# Altium footprint library BMP390.PcbLib: 1 footprints
Each footprint in its own frame and in the unit in brackets; x right, y up, seen from the top. Pads: shape width x height; smd on the part's side, far side on the other; paste and mask are expansions set on the pad; w line width, h text height; cw(c..) or ccw(c..) is an arc to the next point about the centre after c.
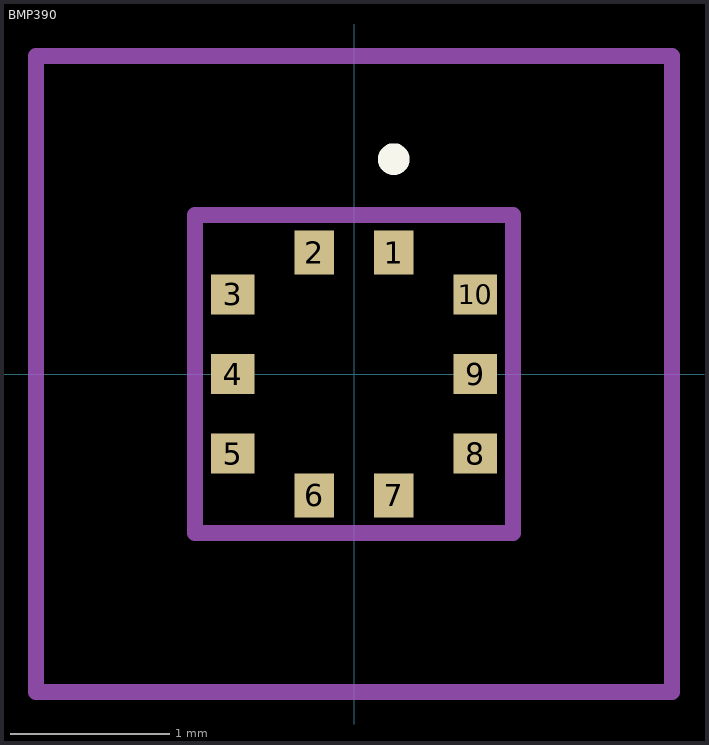
[diagram p0: the footprint, top view; thin cyan lines are the x and y axes]

## BMP390 [mm]
pads (10):
  rect 0.25x0.275 smd: 1(0.25,0.763) 2(-0.25,0.763) 6(-0.25,-0.763) 7(0.25,-0.763)
  rect 0.275x0.25 smd: 3(-0.762,0.5) 4(-0.762,0) 5(-0.762,-0.5) 8(0.762,-0.5) 9(0.762,0) 10(0.762,0.5)
Top Overlay:
  lines w0.1: 0.25,1.3 cw(c0.25,1.35) 0.25,1.4 ; 0.25,1.3 0.25,1.3 ; 0.25,1.3 ccw(c0.25,1.35) 0.25,1.4 ; 0.25,1.4 0.25,1.4
Mechanical 15:
  lines w0.1: -1,-1 1,-1 1,1 -1,1 -1,-1
Mechanical 20:
  lines w0.1: -2,-2 2,-2 2,2 -2,2 -2,-2